# EAGLE library part ER-OLED0.49-1 (library SKAARHOJ)
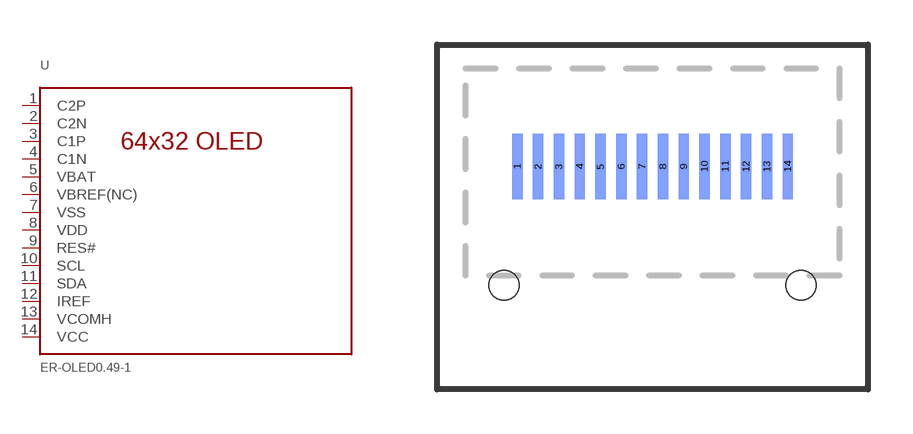
[diagram p77: symbol with the pads of ER-OLED0.49-1_WRAPAROUND; footprint ER-OLED0.49-1_WRAPAROUND]

Designator prefix -

## ER-OLED0.49-1  [ER-OLED0.49-1_WRAPAROUND]
1  C2P
2  C2N
3  C1P
4  C1N
5  VBAT  pwr
6  VBREF(NC)  nc
7  VSS  pwr
8  VDD  pwr
9  RES#  in
10  SCL  in
11  SDA  in
12  IREF  in
13  VCOMH  out
14  VCC  pwr

## Footprint ER-OLED0.49-1_WRAPAROUND (pad centres in mm)
smd 0.35 x 2.2 bottom: 1 -4.55,1.7; 2 -3.85,1.7; 3 -3.15,1.7; 4 -2.45,1.7; 5 -1.75,1.7; 6 -1.05,1.7; 7 -0.35,1.7; 8 0.35,1.7; 9 1.05,1.7; 10 1.75,1.7; 11 2.45,1.7; 12 3.15,1.7; 13 3.85,1.7; 14 4.55,1.7
hole 1 at -5,-2.3
hole 1 at 5,-2.3